# Altium schematic symbol library SCH - POWER - SWITCHMODE - TI TPS62305_DRC_10.SchLib: 1 symbol
Pins are listed as number, name and electrical type; pins without a type are passive.

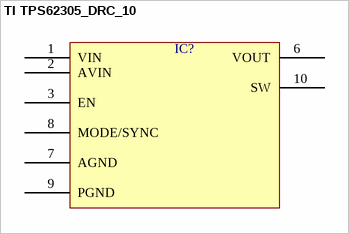
[diagram p0: symbol TI TPS62305_DRC_10]

## TI TPS62305_DRC_10
designator IC?  (value not drawn)
pins: 1 VIN, 2 AVIN, 3 EN, 6 VOUT, 7 AGND, 8 MODE/SYNC, 9 PGND, 10 SW